# EAGLE library part VG15M-160 (library 1A-meinLib)
VG-Steckverbindung. 32z = voreilender Schutzleiter
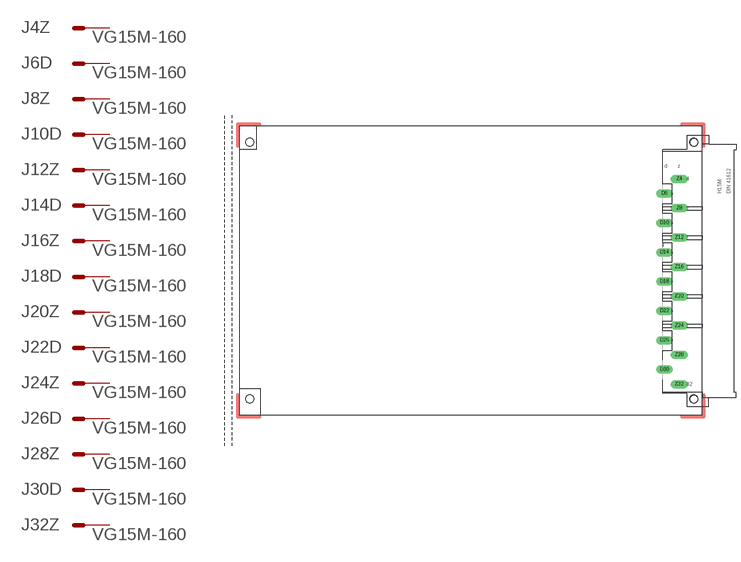
[diagram p176: symbol with the pads of VG15MLE; footprint VG15MLE]

Designator prefix J; gates 4Z=M-3 6D=M-3 8Z=M-3 10D=M-3 12Z=M-3 14D=M-3 16Z=M-3 18D=M-3 20Z=M-3 22D=M-3 24Z=M-3 26D=M-3 28Z=M-3 30D=M-3 32Z=M-3

## VG15M-160  [VG15MLE]
D6  6D:S  pas
D10  10D:S  pas
D14  14D:S  pas
D18  18D:S  pas
D22  22D:S  pas
D26  26D:S  pas
D30  30D:S  pas
Z4  4Z:S  pas
Z8  8Z:S  pas
Z12  12Z:S  pas
Z16  16Z:S  pas
Z20  20Z:S  pas
Z24  24Z:S  pas
Z28  28Z:S  pas
Z32  32Z:S  pas

## Footprint VG15MLE (pad centres in mm)
drill 1.6 pad 3 long: D6 147.32,73.66; D10 147.32,63.5; D14 147.32,53.34; D18 147.32,43.18; D22 147.32,33.02; D26 147.32,22.86; D30 147.32,12.7; Z4 152.4,78.74; Z8 152.4,68.58; Z12 152.4,58.42; Z16 152.4,48.26; Z20 152.4,38.1; Z24 152.4,27.94; Z28 152.4,17.78; Z32 152.4,7.62
hole 2.794 at 3.81,2.54
hole 2.794 at 3.81,91.44
hole 2.794 at 157.48,2.54
hole 2.794 at 157.48,91.44